# EAGLE library part 10PAD (library Pad_MORISHITA)
for flat cable
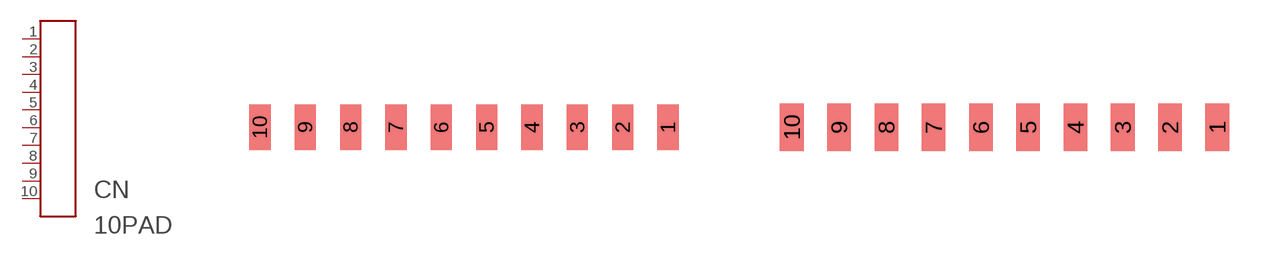
[diagram p1: symbol with the pads of 10POLE_P1.5; footprints 10POLE_P1.5, 10POLE_P2.0]

Designator prefix CN

## 10PAD-1.5  [10POLE_P1.5]
1  P$1
2  P$2
3  P$3
4  P$4
5  P$5
6  P$6
7  P$7
8  P$8
9  P$9
10  P$10

## 10PAD-2.0  [10POLE_P2.0]
Pads as for 10POLE_P1.5

## 10PAD-2.54BS  [10POLE_P2.54_BOTH_SIDE]
Pads as for 10POLE_P1.5

## Footprint 10POLE_P1.5 (pad centres in mm)
1.5mm pitch
smd 0.7 x 1.5: 1 6.75,0; 2 5.25,0; 3 3.75,0; 4 2.25,0; 5 0.75,0; 6 -0.75,0; 7 -2.25,0; 8 -3.75,0; 9 -5.25,0; 10 -6.75,0

## Footprint 10POLE_P2.0 (pad centres in mm)
smd 1 x 2: 1 9,0; 2 7,0; 3 5,0; 4 3,0; 5 1,0; 6 -1,0; 7 -3,0; 8 -5,0; 9 -7,0; 10 -9,0

## Footprint 10POLE_P2.54_BOTH_SIDE (pad centres in mm)
smd 1.5 x 3: 1 5.08,0; 3 2.54,0; 5 0,0; 7 -2.54,0; 9 -5.08,0
smd 1.5 x 3 bottom: 2 5.08,0; 4 2.54,0; 6 0,0; 8 -2.54,0; 10 -5.08,0